# Altium footprint library YIS100.PcbLib: 1 footprints
Each footprint in its own frame and in the unit in brackets; x right, y up, seen from the top. Pads: shape width x height; smd on the part's side, far side on the other; paste and mask are expansions set on the pad; w line width, h text height; cw(c..) or ccw(c..) is an arc to the next point about the centre after c.
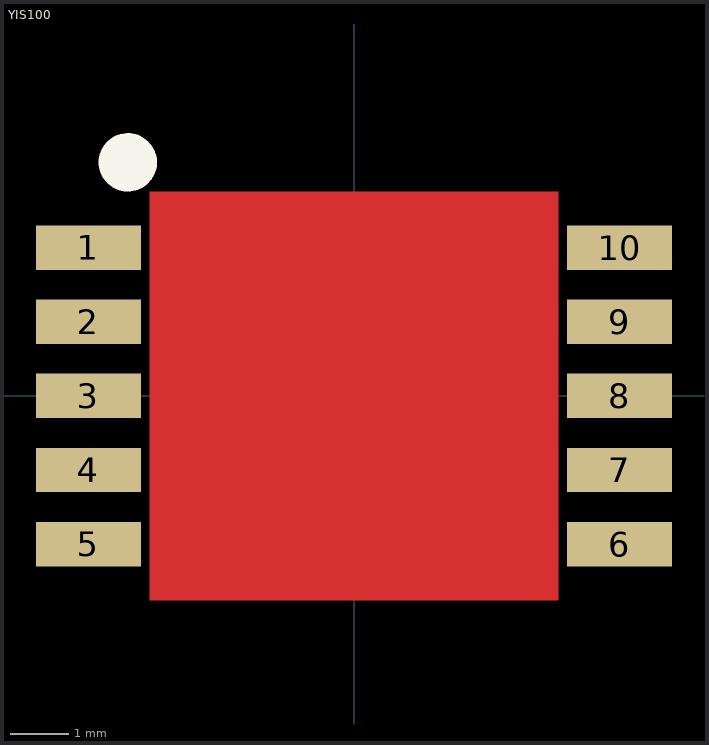
[diagram p0: the footprint, top view; thin cyan lines are the x and y axes]

## YIS100 [mm]
pads (10):
  rect 1.8x0.76 smd mask+0.051: 1(-4.55,2.54) 2(-4.55,1.27) 3(-4.55,0) 4(-4.55,-1.27) 5(-4.55,-2.54) 6(4.55,-2.54) 7(4.55,-1.27) 8(4.55,0) 9(4.55,1.27) 10(4.55,2.54)
Top Layer:
  pour cut-out: -3.5,3.5 3.5,3.5 3.5,-3.5 -3.5,-3.5
Top Overlay:
  circle w0.5: c-3.875,4 r0.25
3D body: height 3.1, standoff 0, extent -4.75,-4.75 4.75,4.75